# Altium schematic symbol library PPTCFuse.SchLib: 1 symbol
Pins are listed as number, name and electrical type; pins without a type are passive.

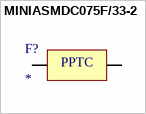
[diagram p0: symbol MINIASMDC075F/33-2]

## MINIASMDC075F/33-2
designator F?
Fuse
footprint RESC4632X15M (Chip Resistor, 2-Leads, Body 4.55x3.24mm, IPC Low Density)
pins: 1     , 2           
text: PPTC